# EAGLE library part MEGAARDUINO_2 (library arduino)
The Arduino Mega is a microcontroller board based on the ATmega1280. - 54 digital input/output pins (of which 14 can be used as PWM outputs) - 16 analog inputs - 4 UARTs (hardware serial ports) - 16 MHz crystal oscillator - USB connection - power jack - ICSP header - reset button It contains everything needed to support the microcontroller; simply connect it to a computer with a USB cable or power it with a AC-to-DC adapter or battery to get started. The Mega is compatible with most shields designed for the Arduino Duemilanove or Diecimila. http://arduino.cc/en/Main/ArduinoBoardMega
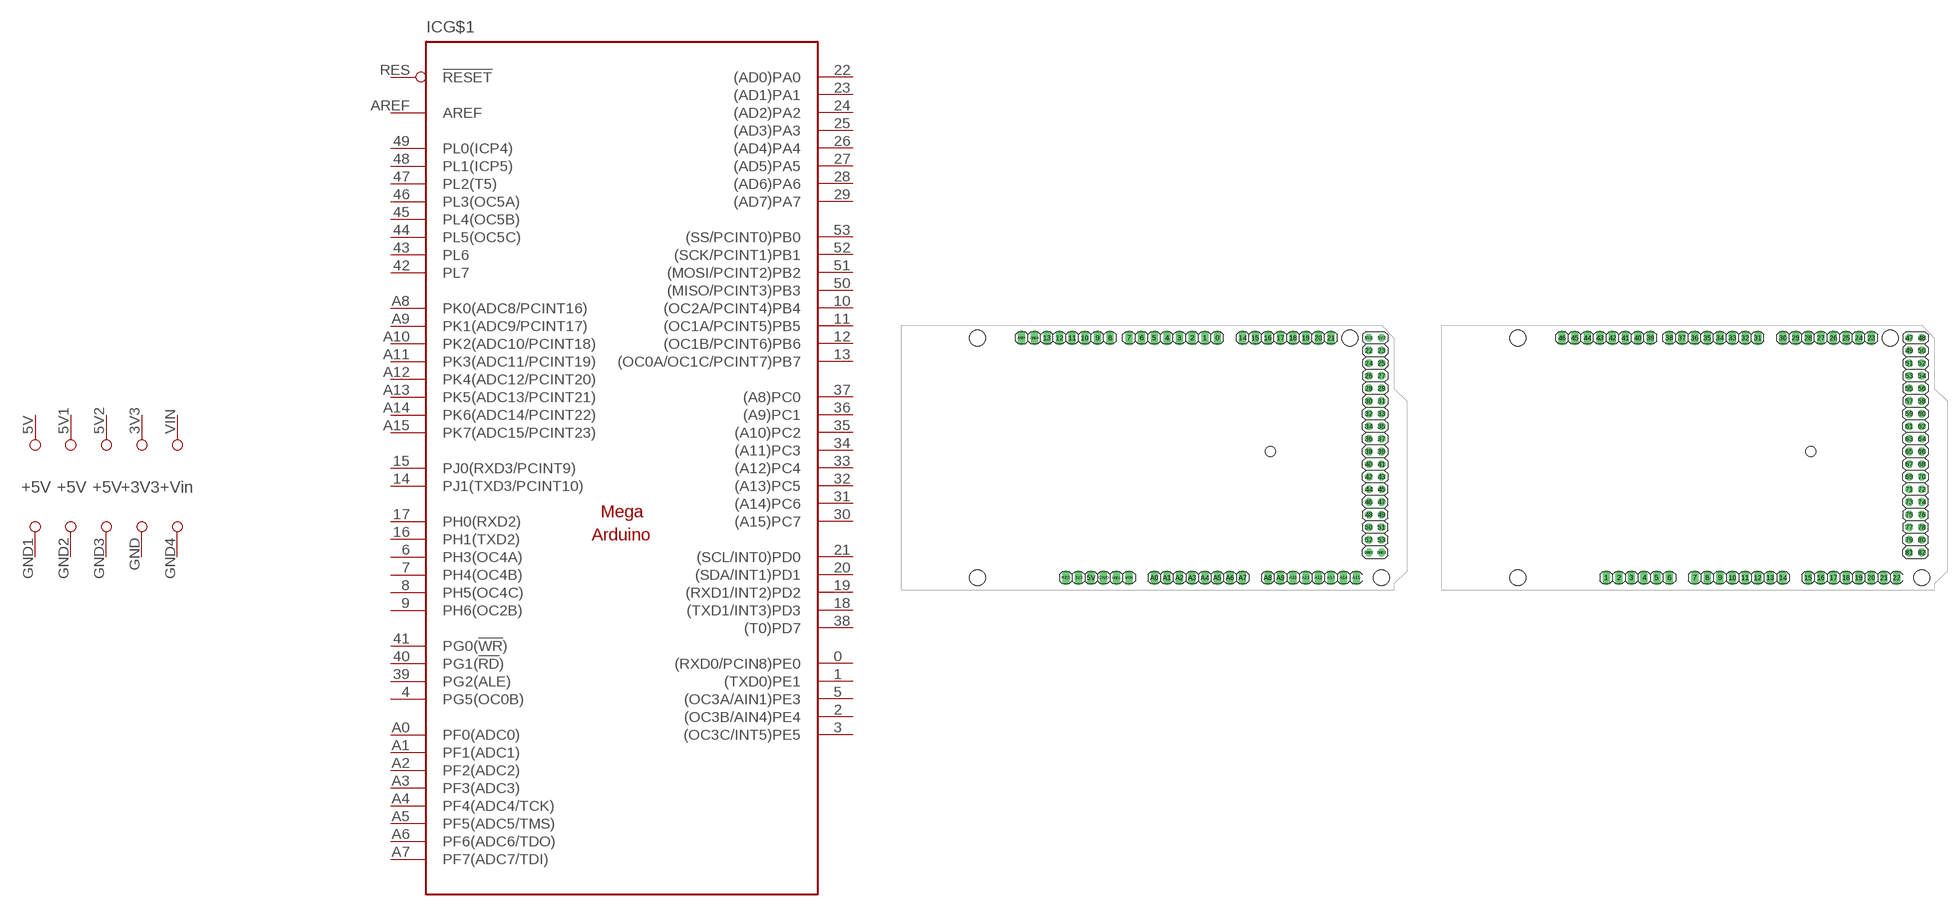
[diagram p5: symbol with the pads of MEGA_ARDUINO; footprints MEGA_ARDUINO, MEGA_ARDUINO_1]

Designator prefix IC; gates G$1=MEGAARDUINO_2 G$2=PWR5V G$3=PWR5V G$4=PWR5V G$5=PWR3V3 G$6=PWRVIN

## MEGAARDUINO_20  [MEGA_ARDUINO]
0  G$1:(RXD0/PCIN8)PE0
1  G$1:(TXD0)PE1
2  G$1:(OC3B/AIN4)PE4
3  G$1:(OC3C/INT5)PE5
3V3  G$5:+3V3  pwr
4  G$1:PG5(OC0B)
5  G$1:(OC3A/AIN1)PE3
5V  G$2:+5V  pwr
5V1  G$3:+5V  pwr
5V2  G$4:+5V  pwr
6  G$1:PH3(OC4A)
7  G$1:PH4(OC4B)
8  G$1:PH5(OC4C)
9  G$1:PH6(OC2B)
10  G$1:(OC2A/PCINT4)PB4
11  G$1:(OC1A/PCINT5)PB5
12  G$1:(OC1B/PCINT6)PB6
13  G$1:(OC0A/OC1C/PCINT7)PB7
14  G$1:PJ1(TXD3/PCINT10)
15  G$1:PJ0(RXD3/PCINT9)
16  G$1:PH1(TXD2)
17  G$1:PH0(RXD2)
18  G$1:(TXD1/INT3)PD3
19  G$1:(RXD1/INT2)PD2
20  G$1:(SDA/INT1)PD1
21  G$1:(SCL/INT0)PD0
22  G$1:(AD0)PA0
23  G$1:(AD1)PA1
24  G$1:(AD2)PA2
25  G$1:(AD3)PA3
26  G$1:(AD4)PA4
27  G$1:(AD5)PA5
28  G$1:(AD6)PA6
29  G$1:(AD7)PA7
30  G$1:(A15)PC7
31  G$1:(A14)PC6
32  G$1:(A13)PC5
33  G$1:(A12)PC4
34  G$1:(A11)PC3
35  G$1:(A10)PC2
36  G$1:(A9)PC1
37  G$1:(A8)PC0
38  G$1:(T0)PD7
39  G$1:PG2(ALE)
40  G$1:PG1(!RD!)
41  G$1:PG0(!WR!)
42  G$1:PL7
43  G$1:PL6
44  G$1:PL5(OC5C)
45  G$1:PL4(OC5B)
46  G$1:PL3(OC5A)
47  G$1:PL2(T5)
48  G$1:PL1(ICP5)
49  G$1:PL0(ICP4)
50  G$1:(MISO/PCINT3)PB3
51  G$1:(MOSI/PCINT2)PB2
52  G$1:(SCK/PCINT1)PB1
53  G$1:(SS/PCINT0)PB0
A0  G$1:PF0(ADC0)
A1  G$1:PF1(ADC1)
A2  G$1:PF2(ADC2)
A3  G$1:PF3(ADC3)
A4  G$1:PF4(ADC4/TCK)
A5  G$1:PF5(ADC5/TMS)
A6  G$1:PF6(ADC6/TDO)
A7  G$1:PF7(ADC7/TDI)
A8  G$1:PK0(ADC8/PCINT16)
A9  G$1:PK1(ADC9/PCINT17)
A10  G$1:PK2(ADC10/PCINT18)
A11  G$1:PK3(ADC11/PCINT19)
A12  G$1:PK4(ADC12/PCINT20)
A13  G$1:PK5(ADC13/PCINT21)
A14  G$1:PK6(ADC14/PCINT22)
A15  G$1:PK7(ADC15/PCINT23)
AREF  G$1:AREF
GND  G$5:GND  pwr
GND1  G$2:GND  pwr
GND2  G$3:GND  pwr
GND3  G$4:GND  pwr
GND4  G$6:GND  pwr
RES  G$1:!RESET
VIN  G$6:+VIN  pwr

## MEGAARDUINO_21  [MEGA_ARDUINO_1]
1  G$1:!RESET
2  G$5:+3V3  pwr
3  G$2:+5V  pwr
4  G$5:GND  pwr
5  G$2:GND  pwr
6  G$6:+VIN  pwr
7  G$1:PF0(ADC0)
8  G$1:PF1(ADC1)
9  G$1:PF2(ADC2)
10  G$1:PF3(ADC3)
11  G$1:PF4(ADC4/TCK)
12  G$1:PF5(ADC5/TMS)
13  G$1:PF6(ADC6/TDO)
14  G$1:PF7(ADC7/TDI)
15  G$1:PK0(ADC8/PCINT16)
16  G$1:PK1(ADC9/PCINT17)
17  G$1:PK2(ADC10/PCINT18)
18  G$1:PK3(ADC11/PCINT19)
19  G$1:PK4(ADC12/PCINT20)
20  G$1:PK5(ADC13/PCINT21)
21  G$1:PK6(ADC14/PCINT22)
22  G$1:PK7(ADC15/PCINT23)
23  G$1:(SCL/INT0)PD0
24  G$1:(SDA/INT1)PD1
25  G$1:(RXD1/INT2)PD2
26  G$1:(TXD1/INT3)PD3
27  G$1:PH0(RXD2)
28  G$1:PH1(TXD2)
29  G$1:PJ0(RXD3/PCINT9)
30  G$1:PJ1(TXD3/PCINT10)
31  G$1:(RXD0/PCIN8)PE0
32  G$1:(TXD0)PE1
33  G$1:(OC3B/AIN4)PE4
34  G$1:(OC3C/INT5)PE5
35  G$1:PG5(OC0B)
36  G$1:(OC3A/AIN1)PE3
37  G$1:PH3(OC4A)
38  G$1:PH4(OC4B)
39  G$1:PH5(OC4C)
40  G$1:PH6(OC2B)
41  G$1:(OC2A/PCINT4)PB4
42  G$1:(OC1A/PCINT5)PB5
43  G$1:(OC1B/PCINT6)PB6
44  G$1:(OC0A/OC1C/PCINT7)PB7
45  G$6:GND  pwr
46  G$1:AREF
47  G$3:+5V  pwr
48  G$4:+5V  pwr
49  G$1:(AD0)PA0
50  G$1:(AD1)PA1
51  G$1:(AD2)PA2
52  G$1:(AD3)PA3
53  G$1:(AD4)PA4
54  G$1:(AD5)PA5
55  G$1:(AD6)PA6
56  G$1:(AD7)PA7
57  G$1:(A15)PC7
58  G$1:(A14)PC6
59  G$1:(A13)PC5
60  G$1:(A12)PC4
61  G$1:(A11)PC3
62  G$1:(A10)PC2
63  G$1:(A9)PC1
64  G$1:(A8)PC0
65  G$1:(T0)PD7
66  G$1:PG2(ALE)
67  G$1:PG1(!RD!)
68  G$1:PG0(!WR!)
69  G$1:PL7
70  G$1:PL6
71  G$1:PL5(OC5C)
72  G$1:PL4(OC5B)
73  G$1:PL3(OC5A)
74  G$1:PL2(T5)
75  G$1:PL1(ICP5)
76  G$1:PL0(ICP4)
77  G$1:(MISO/PCINT3)PB3
78  G$1:(MOSI/PCINT2)PB2
79  G$1:(SCK/PCINT1)PB1
80  G$1:(SS/PCINT0)PB0
81  G$3:GND  pwr
82  G$4:GND  pwr

## MEGAARDUINO_22  [MEGA_ARDUINO_2]
Pads as for MEGA_ARDUINO_1

## Footprint MEGA_ARDUINO (pad centres in mm)
drill 1.016 long: 0 63.5,50.8; 1 60.96,50.8; 2 58.42,50.8; 3 55.88,50.8; 3V3 35.56,2.54; 4 53.34,50.8; 5 50.8,50.8; 5V 38.1,2.54; 6 48.26,50.8; 7 45.72,50.8; 8 41.91,50.8; 9 39.37,50.8; 10 36.83,50.8; 11 34.29,50.8; 12 31.75,50.8; 13 29.21,50.8; 14 68.58,50.8; 15 71.12,50.8; 16 73.66,50.8; 17 76.2,50.8; 18 78.74,50.8; 19 81.28,50.8; 20 83.82,50.8; 21 86.36,50.8; A0 50.8,2.54; A1 53.34,2.54; A2 55.88,2.54; A3 58.42,2.54; A4 60.96,2.54; A5 63.5,2.54; A6 66.04,2.54; A7 68.58,2.54; A8 73.66,2.54; A9 76.2,2.54; A10 78.74,2.54; A11 81.28,2.54; A12 83.82,2.54; A13 86.36,2.54; A14 88.9,2.54; A15 91.44,2.54; AREF 24.13,50.8; GND 40.64,2.54; GND1 43.18,2.54; GND4 26.67,50.8; RES 33.02,2.54; VIN 45.72,2.54
drill 1.016 octagon: 5V1 93.98,50.8; 5V2 96.52,50.8; 22 93.98,48.26; 23 96.52,48.26; 24 93.98,45.72; 25 96.52,45.72; 26 93.98,43.18; 27 96.52,43.18; 28 93.98,40.64; 29 96.52,40.64; 30 93.98,38.1; 31 96.52,38.1; 32 93.98,35.56; 33 96.52,35.56; 34 93.98,33.02; 35 96.52,33.02; 36 93.98,30.48; 37 96.52,30.48; 38 93.98,27.94; 39 96.52,27.94; 40 93.98,25.4; 41 96.52,25.4; 42 93.98,22.86; 43 96.52,22.86; 44 93.98,20.32; 45 96.52,20.32; 46 93.98,17.78; 47 96.52,17.78; 48 93.98,15.24; 49 96.52,15.24; 50 93.98,12.7; 51 96.52,12.7; 52 93.98,10.16; 53 96.52,10.16; GND2 93.98,7.62; GND3 96.52,7.62
hole 3.2 at 15.24,50.8
hole 3.2 at 15.24,2.54
hole 3.2 at 90.17,50.8
hole 3.2 at 96.52,2.54
hole 2 at 74.168,27.94

## Footprint MEGA_ARDUINO_1 (pad centres in mm)
drill 1.016 long: 1 33.02,2.54; 2 35.56,2.54; 3 38.1,2.54; 4 40.64,2.54; 5 43.18,2.54; 6 45.72,2.54; 7 50.8,2.54; 8 53.34,2.54; 9 55.88,2.54; 10 58.42,2.54; 11 60.96,2.54; 12 63.5,2.54; 13 66.04,2.54; 14 68.58,2.54; 15 73.66,2.54; 16 76.2,2.54; 17 78.74,2.54; 18 81.28,2.54; 19 83.82,2.54; 20 86.36,2.54; 21 88.9,2.54; 22 91.44,2.54; 23 86.36,50.8; 24 83.82,50.8; 25 81.28,50.8; 26 78.74,50.8; 27 76.2,50.8; 28 73.66,50.8; 29 71.12,50.8; 30 68.58,50.8; 31 63.5,50.8; 32 60.96,50.8; 33 58.42,50.8; 34 55.88,50.8; 35 53.34,50.8; 36 50.8,50.8; 37 48.26,50.8; 38 45.72,50.8; 39 41.91,50.8; 40 39.37,50.8; 41 36.83,50.8; 42 34.29,50.8; 43 31.75,50.8; 44 29.21,50.8; 45 26.67,50.8; 46 24.13,50.8
drill 1.016 octagon: 47 93.98,50.8; 48 96.52,50.8; 49 93.98,48.26; 50 96.52,48.26; 51 93.98,45.72; 52 96.52,45.72; 53 93.98,43.18; 54 96.52,43.18; 55 93.98,40.64; 56 96.52,40.64; 57 93.98,38.1; 58 96.52,38.1; 59 93.98,35.56; 60 96.52,35.56; 61 93.98,33.02; 62 96.52,33.02; 63 93.98,30.48; 64 96.52,30.48; 65 93.98,27.94; 66 96.52,27.94; 67 93.98,25.4; 68 96.52,25.4; 69 93.98,22.86; 70 96.52,22.86; 71 93.98,20.32; 72 96.52,20.32; 73 93.98,17.78; 74 96.52,17.78; 75 93.98,15.24; 76 96.52,15.24; 77 93.98,12.7; 78 96.52,12.7; 79 93.98,10.16; 80 96.52,10.16; 81 93.98,7.62; 82 96.52,7.62
hole 3.2 at 15.24,50.8
hole 3.2 at 15.24,2.54
hole 3.2 at 90.17,50.8
hole 3.2 at 96.52,2.54
hole 2 at 74.168,27.94

## Footprint MEGA_ARDUINO_2 (pad centres in mm)
drill 1.016 long: 1 33.02,2.54; 2 35.56,2.54; 3 38.1,2.54; 4 40.64,2.54; 5 43.18,2.54; 6 45.72,2.54; 7 50.8,2.54; 8 53.34,2.54; 9 55.88,2.54; 10 58.42,2.54; 11 60.96,2.54; 12 63.5,2.54; 13 66.04,2.54; 14 68.58,2.54; 15 73.66,2.54; 16 76.2,2.54; 17 78.74,2.54; 18 81.28,2.54; 19 83.82,2.54; 20 86.36,2.54; 21 88.9,2.54; 22 91.44,2.54; 23 86.36,50.8; 24 83.82,50.8; 25 81.28,50.8; 26 78.74,50.8; 27 76.2,50.8; 28 73.66,50.8; 29 71.12,50.8; 30 68.58,50.8; 31 63.5,50.8; 32 60.96,50.8; 33 58.42,50.8; 34 55.88,50.8; 35 53.34,50.8; 36 50.8,50.8; 37 48.26,50.8; 38 45.72,50.8; 39 41.91,50.8; 40 39.37,50.8; 41 36.83,50.8; 42 34.29,50.8; 43 31.75,50.8; 44 29.21,50.8; 45 26.67,50.8; 46 24.13,50.8
drill 1.016 octagon: 47 93.98,50.8; 48 96.52,50.8; 49 93.98,48.26; 50 96.52,48.26; 51 93.98,45.72; 52 96.52,45.72; 53 93.98,43.18; 54 96.52,43.18; 55 93.98,40.64; 56 96.52,40.64; 57 93.98,38.1; 58 96.52,38.1; 59 93.98,35.56; 60 96.52,35.56; 61 93.98,33.02; 62 96.52,33.02; 63 93.98,30.48; 64 96.52,30.48; 65 93.98,27.94; 66 96.52,27.94; 67 93.98,25.4; 68 96.52,25.4; 69 93.98,22.86; 70 96.52,22.86; 71 93.98,20.32; 72 96.52,20.32; 73 93.98,17.78; 74 96.52,17.78; 75 93.98,15.24; 76 96.52,15.24; 77 93.98,12.7; 78 96.52,12.7; 79 93.98,10.16; 80 96.52,10.16; 81 93.98,7.62; 82 96.52,7.62
hole 3.2 at 15.24,50.8
hole 3.2 at 15.24,2.54
hole 3.2 at 90.17,50.8
hole 3.2 at 96.52,2.54